# Altium schematic symbol library CAP_Default.Schlib: 1 symbol
Pins are listed as number, name and electrical type; pins without a type are passive.

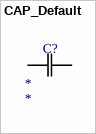
[diagram p0: symbol CAP_Default]

## CAP_Default
designator C?
Default Symbol for Capacitors; Value: *; Rating: *
footprint 0805
footprint 0603 (Chip Resistor, 2-Leads, Body 1.60x0.80mm, IPC High Density)
pins: 1 C1, 2 C2